# Altium schematic symbol library Miscellaneous.SchLib: 30 symbols
Pins are listed as number, name and electrical type; pins without a type are passive.

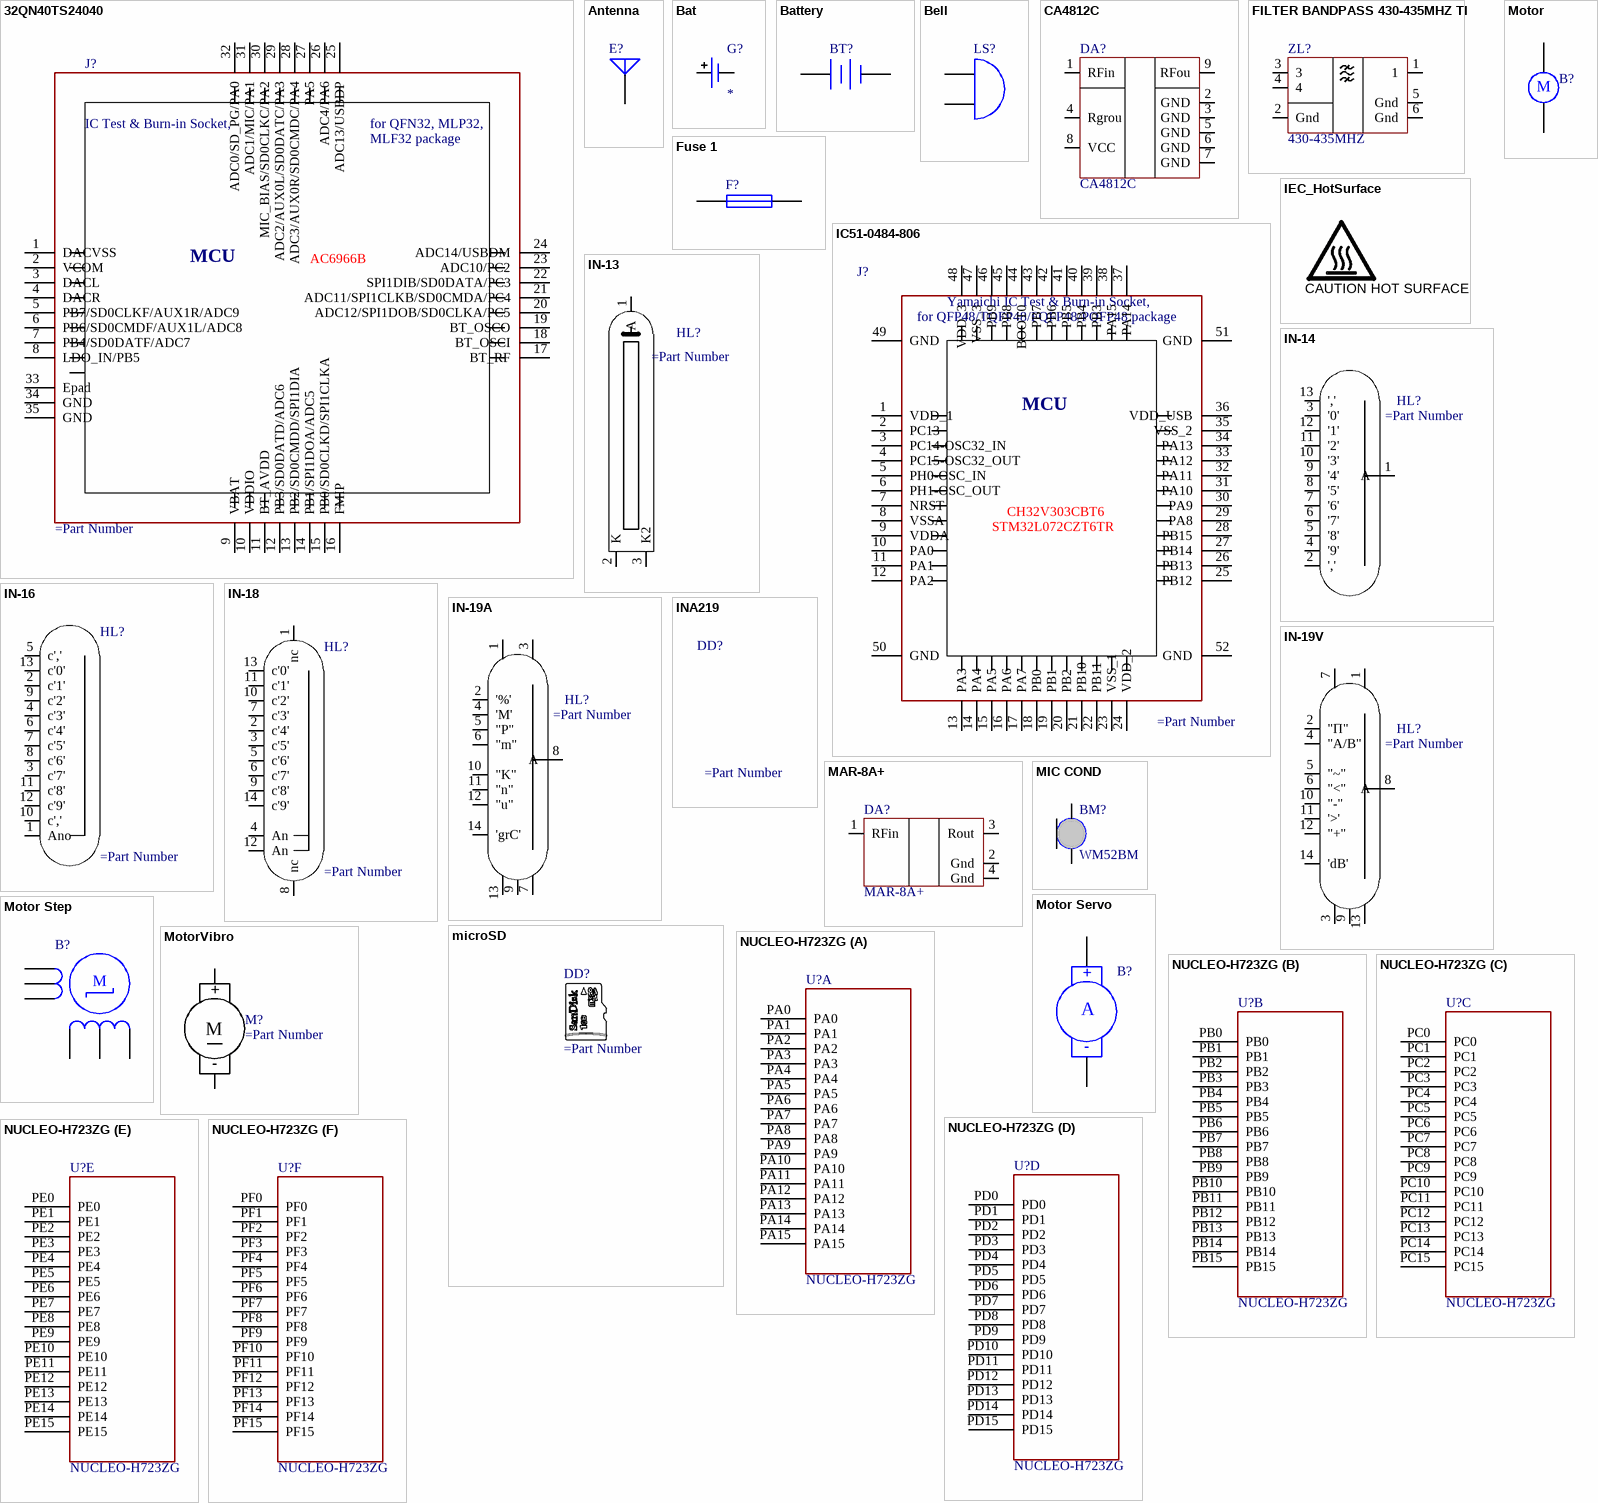
[diagram p0: symbols 32QN40TS24040 to NUCLEO-H723ZG]

## 32QN40TS24040
designator J?
pins: 1 DACVSS, 2 VCOM, 3 DACL, 4 DACR, 5 PB7/SD0CLKF/AUX1R/ADC9, 6 PB6/SD0CMDF/AUX1L/ADC8, 7 PB4/SD0DATF/ADC7, 8 LDO_IN/PB5, 9 VBAT, 10 VDDIO, 11 BT_AVDD, 12 PB3/SD0DATD/ADC6, 13 PB2/SD0CMDD/SPI1DIA, 14 PB1/SPI1DOA/ADC5, 15 PB0/SD0CLKD/SPI1CLKA, 16 FMIP, 17 BT_RF, 18 BT_OSCI, 19 BT_OSCO, 20 ADC12/SPI1DOB/SD0CLKA/PC5, 21 ADC11/SPI1CLKB/SD0CMDA/PC4, 22 SPI1DIB/SD0DATA/PC3, 23 ADC10/PC2, 24 ADC14/USBDM, 25 ADC13/USBDP, 26 ADC4/PA6, 27 PA5, 28 ADC3/AUX0R/SD0CMDC/PA4, 29 ADC2/AUX0L/SD0DATC/PA3, 30 MIC_BIAS/SD0CLKC/PA2, 31 ADC1/MIC/PA1, 32 ADC0/SD_PG/PA0, 33 Epad, 34 GND, 35 GND
text: IC Test & Burn-in Socket,; for QFN32, MLP32,; MLF32 package; MCU; AC6966B

## Antenna
designator E?
Generic Antenna; Published: 24-Mar-1999; LatestRevisionDate: 17-Jul-2002; LatestRevisionNote: Re-released for DXP Platform.; PackageReference: PIN1; Publisher: Altium Limited
pins: 1 A

## Bat
designator G?
pins: 1 +, 2 -

## Battery
designator BT?
Multicell Battery; Published: 24-Mar-1999; LatestRevisionDate: 17-Jul-2002; LatestRevisionNote: Re-released for DXP Platform.; PackageReference: BAT-2; Publisher: Altium Limited; PackageDescription: Battery; 2 Leads
pins: 1 +, 2 -

## Bell
designator LS?
Electrical Bell; Published: 24-Mar-1999; LatestRevisionDate: 17-Jul-2002; LatestRevisionNote: Re-released for DXP Platform.; PackageReference: PIN2; Publisher: Altium Limited
pins: 1 A, 2 B

## CA4812C
designator DA?
pins: 1 RFin, 2 GND, 3 GND, 4 Rgrou, 5 GND, 6 GND, 7 GND, 8 VCC, 9 RFou

## FILTER BANDPASS 430-435MHZ TI
designator ZL?, comment 430-435MHZ
pins: 1, 2 Gnd, 3, 4, 5 Gnd, 6 Gnd

## Fuse 1
designator F?
Fuse; Published: 8-Jun-2000; LatestRevisionDate: 17-Jul-2002; LatestRevisionNote: Re-released for DXP Platform.; PackageReference: PIN-W2/E2.8; Publisher: Altium Limited; PackageDescription: Thru-Hole; 2 Leads
pins: 1, 2

## IC51-0484-806
designator J?
pins: 1 VDD_1, 2 PC13, 3 PC14-OSC32_IN, 4 PC15-OSC32_OUT, 5 PH0-OSC_IN, 6 PH1-OSC_OUT, 7 NRST, 8 VSSA, 9 VDDA, 10 PA0, 11 PA1, 12 PA2, 13 PA3, 14 PA4, 15 PA5, 16 PA6, 17 PA7, 18 PB0, 19 PB1, 20 PB2, 21 PB10, 22 PB11, 23 VSS_1, 24 VDD_2, 25 PB12, 26 PB13, 27 PB14, 28 PB15, 29 PA8, 30 PA9, 31 PA10, 32 PA11, 33 PA12, 34 PA13, 35 VSS_2, 36 VDD_USB, 37 PA14, 38 PA15, 39 PB3, 40 PB4, 41 PB5, 42 PB6, 43 PB7, 44 BOOT0, 45 PB8, 46 PB9, 47 VSS_3, 48 VDD_3, 49 GND, 50 GND, 51 GND, 52 GND
text: Yamaichi IC Test & Burn-in Socket,; for QFP48/TQFP48/FQFP48/PQFP48 package; MCU; CH32V303CBT6; STM32L072CZT6TR

## IEC_HotSurface
designator LOGO?, comment CAUTION HOT SURFACE  (no BOM)
IEC 61010-1 Hot Surface Warning; SymbolCreator: a0412235; SymbolVersion: 2011-08-22; Published: 2009-03-03; Publisher: Texas Instruments; LatestRevisionDate: 2014-11-20
footprint IEC_HotSurface_Large
footprint IEC_HotSurface_Medium
footprint IEC_HotSurface_Small

## IN-13
designator HL?
Bargraph Cold Gas Lamp; LatestRevisionDate: 17-Jul-2002; LatestRevisionNote: Re-released for DXP Platform.; Publisher: Altium Limited
signal-integrity model Connector
footprint IN-8
pins: 1 A, 2 K, 3 K2

## IN-14
designator HL?
LatestRevisionDate: 17-Jul-2002; LatestRevisionNote: Re-released for DXP Platform.; Publisher: Altium Limited
signal-integrity model Connector
footprint IN-8
pins: 1 A, 2 ',', 3 '0', 4 '9', 5 '8', 6 '7', 7 '6', 8 '5', 9 '4', 10 '3', 11 '2', 12 '1', 13 ','

## IN-16
designator HL?
LatestRevisionDate: 17-Jul-2002; LatestRevisionNote: Re-released for DXP Platform.; Publisher: Altium Limited
signal-integrity model Connector
footprint IN-8
pins: 1 Ano, 2 c'1', 3 c'7', 4 c'3', 5 c',', 6 c'4', 7 c'5', 8 c'6', 9 c'2', 10 c',', 11 c'8', 12 c'9', 13 c'0'

## IN-18
designator HL?
Cold cathode gas-filled numerical indicator tube intended for displaying Arabic digits: 0, 1, / 2, 3, 4, 5, 6, 7, 8, 9.; LatestRevisionDate: 17-Jul-2002; LatestRevisionNote: Re-released for DXP Platform.; Publisher: Altium Limited
signal-integrity model Connector
footprint IN-8
pins: 1 nc, 2 c'4', 3 c'5', 4 An, 5 c'6', 6 c'7', 7 c'3', 8 nc, 9 c'8', 10 c'2', 11 c'1', 12 An, 13 c'0', 14 c'9'

## IN-19A
designator HL?
LatestRevisionDate: 17-Jul-2002; LatestRevisionNote: Re-released for DXP Platform.; Publisher: Altium Limited
signal-integrity model Connector
footprint IN-8
pins: 1 nc, 2 '%', 3 nc, 4 'M', 5 "P", 6 "m", 7 nc, 8 A, 9 nc, 10 "K", 11 "n", 12 "u", 13 nc, 14 'grC'

## IN-19V
designator HL?
LatestRevisionDate: 17-Jul-2002; LatestRevisionNote: Re-released for DXP Platform.; Publisher: Altium Limited
signal-integrity model Connector
footprint IN-8
pins: 1 nc, 2 "П", 3 nc, 4 "A/B", 5 "~", 6 "<", 7 nc, 8 A, 9 nc, 10 "-", 11 '>', 12 "+", 13 nc, 14 'dB'

## INA219
designator DD?

## MAR-8A+
designator DA?
Monolithic Amplifier
pins: 1 RFin, 2 Gnd, 3 Rout, 4 Gnd

## MIC COND
designator BM?, comment WM52BM
pins: 1, 2

## microSD
designator DD?

## Motor
designator B?
Motor, General Kind; Published: 24-Mar-1999; LatestRevisionDate: 17-Jul-2002; LatestRevisionNote: Re-released for DXP Platform.; PackageReference: RB5-10.5; Publisher: Altium Limited; PackageDescription: Capacitor (Radial); 2 Leads
pins: 1, 2
text: M

## Motor Servo
designator B?
Servo Motor; Published: 24-Mar-1999; LatestRevisionDate: 17-Jul-2002; LatestRevisionNote: Re-released for DXP Platform.; PackageReference: RAD-0.4; Publisher: Altium Limited; PackageDescription: Radial Cap, Thru-Hole; 2 Leads; 0.4 in Pin Spacing
pins: 1 +, 2 -
text: A

## Motor Step
designator B?
Motor Stepper; Published: 24-Mar-1999; LatestRevisionDate: 17-Jul-2002; LatestRevisionNote: Re-released for DXP Platform.; PackageReference: DIP-6; Publisher: Altium Limited; Code_JEDEC: MO-001-AM
pins: 1, 2, 3, 4, 5, 6
text: M

## MotorVibro
designator M?
pins: 1 +, 2 -
text: M

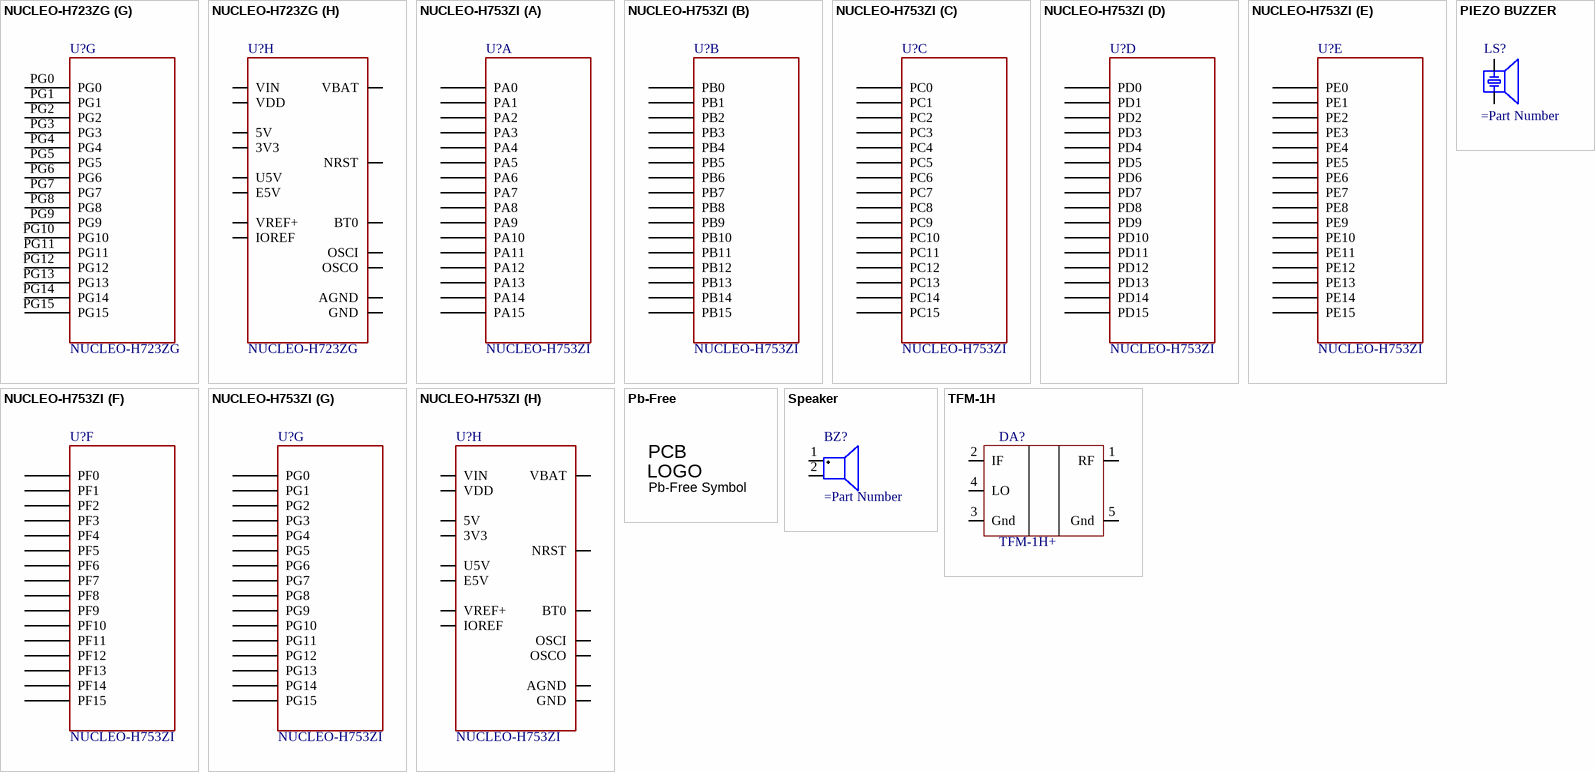
[diagram p1: symbols NUCLEO-H723ZG to TFM-1H]

## NUCLEO-H723ZG
designator U?
part A pins: PA0, PA1, PA2, PA3, PA4, PA5, PA6, PA7, PA8, PA9, PA10, PA11, PA12, PA13, PA14, PA15
part B pins: PB0, PB1, PB2, PB3, PB4, PB5, PB6, PB7, PB8, PB9, PB10, PB11, PB12, PB13, PB14, PB15
part C pins: PC0, PC1, PC2, PC3, PC4, PC5, PC6, PC7, PC8, PC9, PC10, PC11, PC12, PC13, PC14, PC15
part D pins: PD0, PD1, PD2, PD3, PD4, PD5, PD6, PD7, PD8, PD9, PD10, PD11, PD12, PD13, PD14, PD15
part E pins: PE0, PE1, PE2, PE3, PE4, PE5, PE6, PE7, PE8, PE9, PE10, PE11, PE12, PE13, PE14, PE15
part F pins: PF0, PF1, PF2, PF3, PF4, PF5, PF6, PF7, PF8, PF9, PF10, PF11, PF12, PF13, PF14, PF15
part G pins: PG0, PG1, PG2, PG3, PG4, PG5, PG6, PG7, PG8, PG9, PG10, PG11, PG12, PG13, PG14, PG15
part H pins: 3V3, 5V, AGND, BT0, E5V, GND, IOREF, NRST, OSCI, OSCO, U5V, VBAT, VDD, VIN, VREF+

## NUCLEO-H753ZI
designator U?
part A pins: PA0, PA1, PA2, PA3, PA4, PA5, PA6, PA7, PA8, PA9, PA10, PA11, PA12, PA13, PA14, PA15
part B pins: PB0, PB1, PB2, PB3, PB4, PB5, PB6, PB7, PB8, PB9, PB10, PB11, PB12, PB13, PB14, PB15
part C pins: PC0, PC1, PC2, PC3, PC4, PC5, PC6, PC7, PC8, PC9, PC10, PC11, PC12, PC13, PC14, PC15
part D pins: PD0, PD1, PD2, PD3, PD4, PD5, PD6, PD7, PD8, PD9, PD10, PD11, PD12, PD13, PD14, PD15
part E pins: PE0, PE1, PE2, PE3, PE4, PE5, PE6, PE7, PE8, PE9, PE10, PE11, PE12, PE13, PE14, PE15
part F pins: PF0, PF1, PF2, PF3, PF4, PF5, PF6, PF7, PF8, PF9, PF10, PF11, PF12, PF13, PF14, PF15
part G pins: PG0, PG1, PG2, PG3, PG4, PG5, PG6, PG7, PG8, PG9, PG10, PG11, PG12, PG13, PG14, PG15
part H pins: 3V3, 5V, AGND, BT0, E5V, GND, IOREF, NRST, OSCI, OSCO, U5V, VBAT, VDD, VIN, VREF+

## Pb-Free
designator Logo2, comment Pb-Free Symbol  (no BOM)
SymbolCreator: a0412235; SymbolVersion: 2011-08-22; Published: 2009-03-03; Publisher: Texas Instruments; LatestRevisionDate: 2014-11-20
footprint Pb-Free_Overlay_Medium
footprint Pb-Free_Overlay_Small
text: PCB; LOGO

## PIEZO BUZZER
designator LS?

## Speaker
designator BZ?
Loudspeaker; Published: 24-Mar-1999; LatestRevisionDate: 17-Jul-2002; LatestRevisionNote: Re-released for DXP Platform.; PackageReference: PIN2; Publisher: Altium Limited
pins: 1, 2

## TFM-1H
designator DA?, comment TFM-1H+
pins: 1 RF, 2 IF, 3 Gnd, 4 LO, 5 Gnd